# EAGLE library part AD8659 (library Opamps)
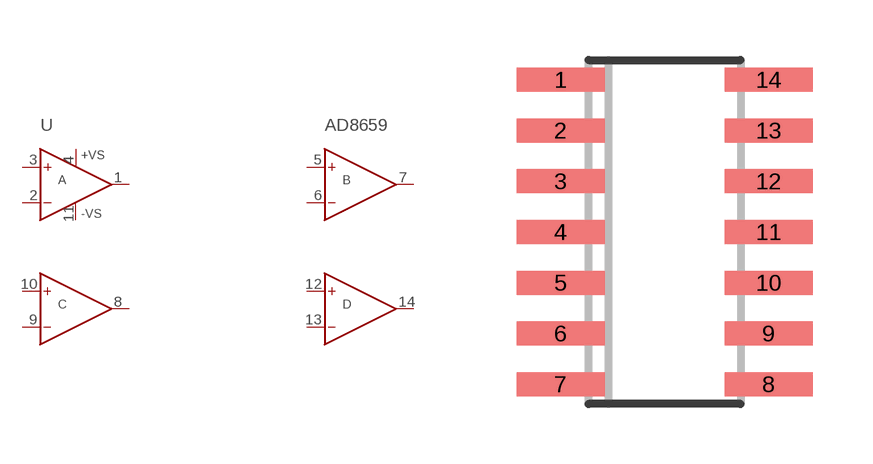
[diagram p0: symbol with the pads of SO14; footprint SO14]

Designator prefix U

## AD8659  [SO14]
1  OUTA  out
2  -INA  in
3  +INA  in
4  +VS  in
5  +INB  in
6  -INB  in
7  OUTB  out
8  OUTC  out
9  -INC  in
10  +INC  in
11  -VS  in
12  +IND  in
13  -IND  in
14  OUTD  out

## Footprint SO14 (pad centres in mm)
smd 2.2 x 0.6: 1 -2.6,3.81; 2 -2.6,2.54; 3 -2.6,1.27; 4 -2.6,0; 5 -2.6,-1.27; 6 -2.6,-2.54; 7 -2.6,-3.81; 8 2.6,-3.81; 9 2.6,-2.54; 10 2.6,-1.27; 11 2.6,0; 12 2.6,1.27; 13 2.6,2.54; 14 2.6,3.81